# EAGLE library part 1364 (library bodger)
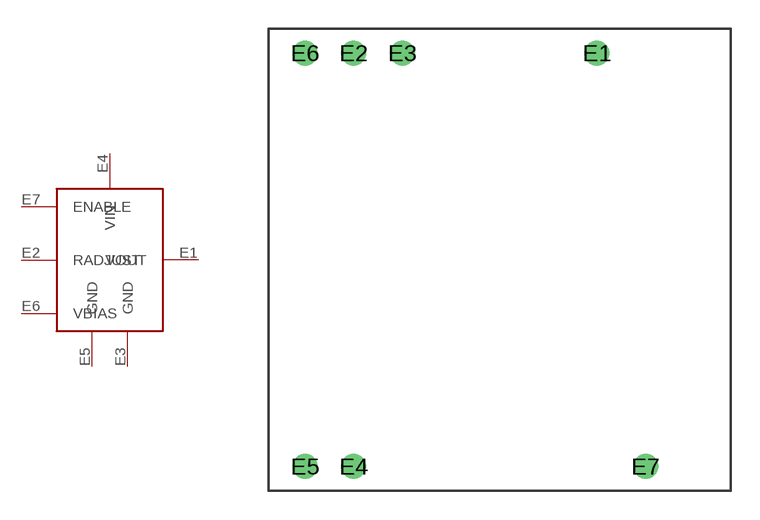
[diagram p29: symbol with the pads of TAYLOREDGE-1364; footprint TAYLOREDGE-1364]

Designator prefix -

## 1364  [TAYLOREDGE-1364]
E1  VOUT  out
E2  RADJUST  in
E3  GND  pwr
E4  VIN  pwr
E5  GND  pwr
E6  VBIAS  out
E7  ENABLE  in

## Footprint TAYLOREDGE-1364 (pad centres in mm)
drill 0.8: E1 5.08,10.795; E2 -7.62,10.795; E3 -5.08,10.795; E4 -7.62,-10.795; E5 -10.16,-10.795; E6 -10.16,10.795; E7 7.62,-10.795